# EAGLE library part CD4051BCMTCX (library Fairchild_By_element14_Batch_1)
Analog Multiplexer/Demultiplexer
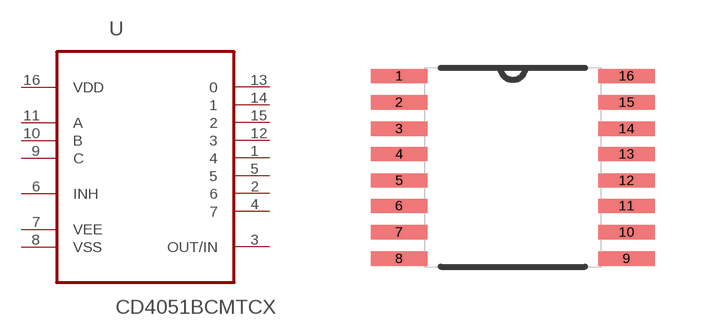
[diagram p161: symbol with the pads of SOP65P640X110-16N; footprint SOP65P640X110-16N]

Designator prefix U

## CD4051BCMTCX (MPN: CD4051BCMTCX; OC_FARNELL: 1467373; OC_NEWARK: 58K0157; PACKAGE: TSSOP-16; SUPPLIER: FAIRCHILD SEMICONDUCTOR)  [SOP65P640X110-16N]
1  4
2  6
3  OUT/IN
4  7
5  5
6  INH  in
7  VEE  pwr
8  VSS  pwr
9  C  in
10  B  in
11  A  in
12  3
13  0
14  1
15  2
16  VDD  pwr

## Footprint SOP65P640X110-16N (pad centres in mm)
smd 1.422 x 0.356: 1 -2.845,2.286; 2 -2.845,1.626; 3 -2.845,0.965; 4 -2.845,0.33; 5 -2.845,-0.33; 6 -2.845,-0.965; 7 -2.845,-1.626; 8 -2.845,-2.286; 9 2.845,-2.286; 10 2.845,-1.626; 11 2.845,-0.965; 12 2.845,-0.33; 13 2.845,0.33; 14 2.845,0.965; 15 2.845,1.626; 16 2.845,2.286